# Altium footprint library DJPCBlib.PcbLib: 25 footprints (part 2 of 2)
Each footprint in its own frame and in the unit in brackets; x right, y up, seen from the top. Pads: shape width x height; smd on the part's side, far side on the other; paste and mask are expansions set on the pad; w line width, h text height; cw(c..) or ccw(c..) is an arc to the next point about the centre after c.
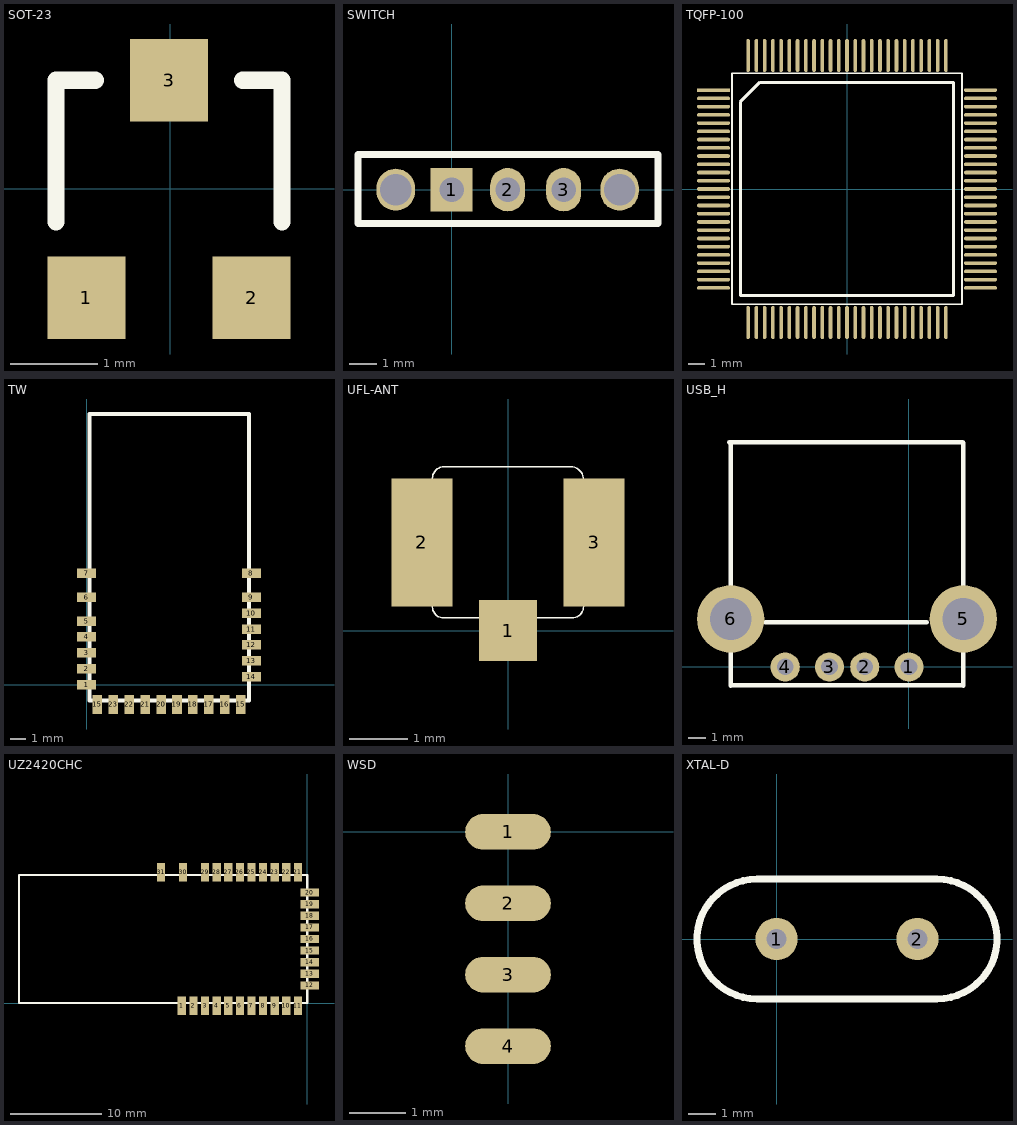
[diagram p1: the footprints below, top view; thin cyan lines are the x and y axes]

## SOT-23 [mm]
pads (3):
  rect 0.9x0.95 smd: 1(-0.963,-1.25) 2(0.937,-1.25) 3(-0.013,1.25)
Top Overlay:
  lines w0.2: -1.313,-0.375 -1.313,1.25 -0.863,1.25 ; 0.837,1.25 1.287,1.25 1.287,-0.375

## SWITCH [mil]
pads (5):
  rect 60x62 hole 35: 1(0,0)
  oval 50x62 hole 35: 2(80,0) 3(160,0)
  oval 55x60 / inner round 0 / far side round 0 hole 45: ""(-80,0) ""(240,0)
Top Overlay:
  lines w10: -134,-48 295,-48 295,50 -134,50 -134,-48

## TQFP-100 [mm]
pads (100):
  rect 2x0.22 smd: 1(-8.1,5.994)
  oval 2x0.22 smd: 2(-8.1,5.5) 3(-8.1,5) 4(-8.1,4.5) 5(-8.1,4) 6(-8.1,3.5) 7(-8.1,3) 8(-8.1,2.5) 9(-8.1,2) 10(-8.1,1.5) 11(-8.1,1) 12(-8.1,0.5) 13(-8.1,0) 14(-8.1,-0.5) 15(-8.1,-1) 16(-8.1,-1.5) 17(-8.1,-2) 18(-8.1,-2.5) 19(-8.1,-3) 20(-8.1,-3.5) 21(-8.1,-4) 22(-8.1,-4.5) 23(-8.1,-5) 24(-8.1,-5.5) 25(-8.1,-6) 51(8.1,-6) 52(8.1,-5.5) 53(8.1,-5) 54(8.1,-4.5) 55(8.1,-4) 56(8.1,-3.5) 57(8.1,-3) 58(8.1,-2.5) 59(8.1,-2) 60(8.1,-1.5) 61(8.1,-1) 62(8.1,-0.5) 63(8.1,0) 64(8.1,0.5) 65(8.1,1) 66(8.1,1.5) 67(8.1,2) 68(8.1,2.5) 69(8.1,3) 70(8.1,3.5) 71(8.1,4) 72(8.1,4.5) 73(8.1,5) 74(8.1,5.5) 75(8.1,6)
  oval 0.22x2 smd: 26(-6,-8.1) 27(-5.5,-8.1) 28(-5,-8.1) 29(-4.5,-8.1) 30(-4,-8.1) 31(-3.5,-8.1) 32(-3,-8.1) 33(-2.5,-8.1) 34(-2,-8.1) 35(-1.5,-8.1) 36(-1,-8.1) 37(-0.5,-8.1) 38(0,-8.1) 39(0.5,-8.1) 40(1,-8.1) 41(1.5,-8.1) 42(2,-8.1) 43(2.5,-8.1) 44(3,-8.1) 45(3.5,-8.1) 46(4,-8.1) 47(4.5,-8.1) 48(5,-8.1) 49(5.5,-8.1) 50(6,-8.1) 76(6,8.1) 77(5.5,8.1) 78(5,8.1) 79(4.5,8.1) 80(4,8.1) 81(3.5,8.1) 82(3,8.1) 83(2.5,8.1) 84(2,8.1) 85(1.5,8.1) 86(1,8.1) 87(0.5,8.1) 88(0,8.1) 89(-0.5,8.1) 90(-1,8.1) 91(-1.5,8.1) 92(-2,8.1) 93(-2.5,8.1) 94(-3,8.1) 95(-3.5,8.1) 96(-4,8.1) 97(-4.5,8.1) 98(-5,8.1) 99(-5.5,8.1) 100(-6,8.1)
Top Overlay:
  lines w0.102: -6.975,-7 6.975,-7 6.975,7.025 -6.975,7.025 -6.975,-7
  lines w0.2: -6.465,-6.465 -6.465,5.28 -5.28,6.465 6.465,6.465 6.465,-6.465 -6.465,-6.465

## TW [mm]
pads (24):
  rect 1.2x0.6 smd: 1(0,0) 2(0,1) 3(0,2) 4(0,3) 5(0,4) 6(0,5.5) 7(0,7) 8(10.367,7) 9(10.367,5.5) 10(10.367,4.5) 11(10.367,3.5) 12(10.367,2.5) 13(10.367,1.5) 14(10.367,0.5)
  rect 0.6x1.2 smd: 15(0.685,-1.243) 15(9.685,-1.243) 16(8.685,-1.243) 17(7.685,-1.243) 18(6.685,-1.243) 19(5.685,-1.243) 20(4.685,-1.243) 21(3.685,-1.243) 22(2.685,-1.243) 23(1.685,-1.243)
Top Overlay:
  lines w0.254: 0.192,-1 10.192,-1 ; 0.197,-0.99 0.197,17.01 ; 0.197,17.019 10.197,17.019 ; 10.205,-0.99 10.205,17.01

## UFL-ANT [mm]
pads (3):
  rect 1x1.05 smd: 1(0,0)
  rect 1.05x2.2 smd: 2(-1.48,1.52) 3(1.48,1.52)
Top Overlay:
  lines w0.025: -1.3,0.41 ccw(c-1.11,0.41) -1.11,0.22 1.1,0.22 ccw(c1.1,0.42) 1.3,0.42 1.3,2.6 ccw(c1.08,2.6) 1.08,2.82 0,2.82 -1.1,2.82 ccw(c-1.1,2.62) -1.3,2.62 -1.3,0.41

## USB_H [mil]
pads (6):
  round 65 hole 37: 1(0,0) 2(-98.5,0) 3(-177,0) 4(-275.6,0)
  round 150 hole 93: 5(121,107) 6(-397,107)
Top Overlay:
  lines w10: -397,-41.57 -397,107 -397,477 -397,497 -400,500 120,500 121,499 121,107 121,-41.5 ; -395.84,-40.45 118.16,-40.45 ; -320,100 40,100

## UZ2420CHC [mm]
pads (31):
  rect 0.9x2 smd: 1(-13.7,-0.3) 2(-12.43,-0.3) 3(-11.16,-0.3) 4(-9.89,-0.3) 5(-8.62,-0.3) 6(-7.35,-0.3) 7(-6.08,-0.3) 8(-4.81,-0.3) 9(-3.54,-0.3) 10(-2.27,-0.3) 11(-1,-0.3) 21(-1,14.3) 22(-2.27,14.3) 23(-3.54,14.3) 24(-4.81,14.3) 25(-6.08,14.3) 26(-7.35,14.3) 27(-8.62,14.3) 28(-9.89,14.3) 29(-11.16,14.3) 30(-13.56,14.3) 31(-15.96,14.3)
  rect 2x0.9 smd: 12(0.3,1.92) 13(0.3,3.19) 14(0.3,4.46) 15(0.3,5.73) 16(0.3,7) 17(0.3,8.27) 18(0.3,9.54) 19(0.3,10.81) 20(0.3,12.08)
Top Overlay:
  lines w0.254: -31.5,0 0,0 0,14 -31.5,14 -31.5,0

## WSD [mil]
pads (4):
  oval 60x25 smd: 1(0,0) 2(0,-50) 3(0,-100) 4(0,-150)

## XTAL-D [mil]
pads (2):
  round 60 hole 28: 1(0,0) 2(200,0)
Top Overlay:
  lines w10: -28,-85.01 cw(c-28,0) -28,85.01 228,85.01 cw(c228,0) 228,-85.01 -28,-85.01